# EAGLE library part SN74CBT16232DL (library Inventory)
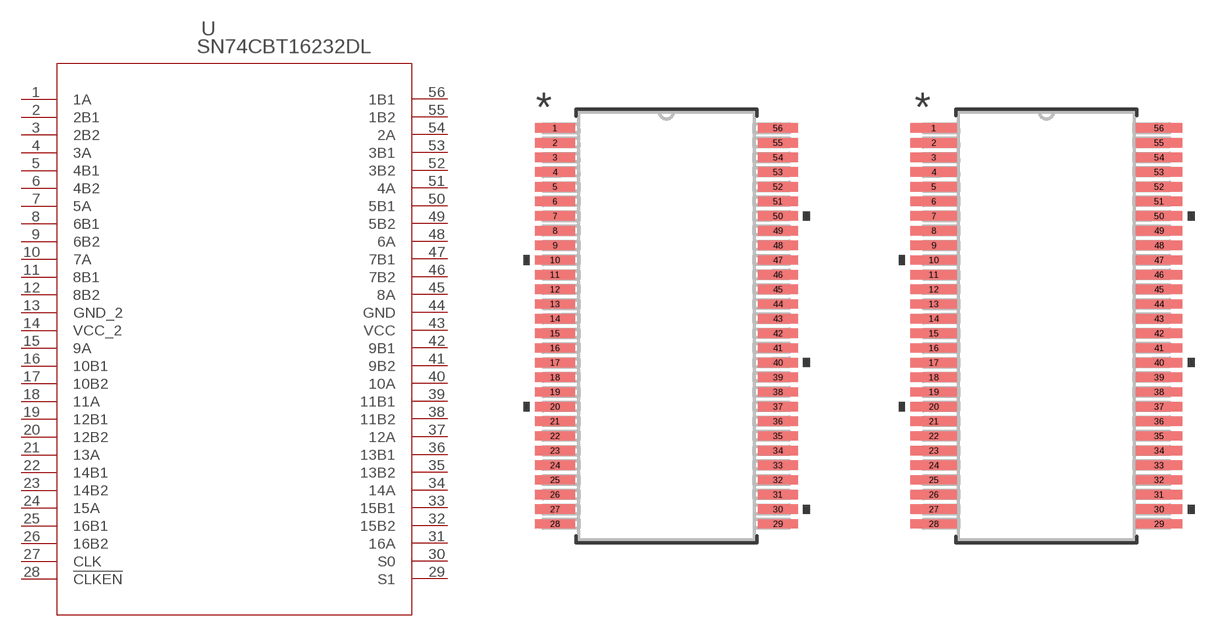
[diagram p10: symbol with the pads of DL56; footprints DL56, DL56-M]

Designator prefix U

## SN74CBT16232DL (COPYRIGHT: Copyright (C) 2022 Ultra Librarian. All rights reserved.; DIGI-KEY_PART_NUMBER_1: SN74CBT16232DL-ND; DIGI-KEY_PART_NUMBER_2: 2156-SN74CBT16232DL-ND; MANUFACTURER_PART_NUMBER: SN74CBT16232DL; MFR_NAME: Texas Instruments)  [DL56]
1  1A
2  2B1
3  2B2
4  3A
5  4B1
6  4B2
7  5A
8  6B1
9  6B2
10  7A
11  8B1
12  8B2
13  GND_2  pwr
14  VCC_2  pwr
15  9A
16  10B1
17  10B2
18  11A
19  12B1
20  12B2
21  13A
22  14B1
23  14B2
24  15A
25  16B1
26  16B2
27  CLK  in
28  !CLKEN  in
29  S1  in
30  S0  in
31  16A
32  15B2
33  15B1
34  14A
35  13B2
36  13B1
37  12A
38  11B2
39  11B1
40  10A
41  9B2
42  9B1
43  VCC  pwr
44  GND  pwr
45  8A
46  7B2
47  7B1
48  6A
49  5B2
50  5B1
51  4A
52  3B2
53  3B1
54  2A
55  1B2
56  1B1

## SN74CBT16232DLDL56-M (COPYRIGHT: Copyright (C) 2022 Ultra Librarian. All rights reserved.; DIGI-KEY_PART_NUMBER_1: SN74CBT16232DL-ND; DIGI-KEY_PART_NUMBER_2: 2156-SN74CBT16232DL-ND; MANUFACTURER_PART_NUMBER: SN74CBT16232DL; MFR_NAME: Texas Instruments)  [DL56-M]
Pads as for DL56

## SN74CBT16232DLDL56-L (COPYRIGHT: Copyright (C) 2022 Ultra Librarian. All rights reserved.; DIGI-KEY_PART_NUMBER_1: SN74CBT16232DL-ND; DIGI-KEY_PART_NUMBER_2: 2156-SN74CBT16232DL-ND; MANUFACTURER_PART_NUMBER: SN74CBT16232DL; MFR_NAME: Texas Instruments)  [DL56-L]
Pads as for DL56

## Footprint DL56 (pad centres in mm)
smd 1.716 x 0.406: 1 -4.826,8.572; 2 -4.826,7.938; 3 -4.826,7.303; 4 -4.826,6.668; 5 -4.826,6.032; 6 -4.826,5.397; 7 -4.826,4.763; 8 -4.826,4.128; 9 -4.826,3.493; 10 -4.826,2.857; 11 -4.826,2.223; 12 -4.826,1.587; 13 -4.826,0.953; 14 -4.826,0.318; 15 -4.826,-0.318; 16 -4.826,-0.953; 17 -4.826,-1.587; 18 -4.826,-2.223; 19 -4.826,-2.857; 20 -4.826,-3.493; 21 -4.826,-4.128; 22 -4.826,-4.763; 23 -4.826,-5.397; 24 -4.826,-6.032; 25 -4.826,-6.668; 26 -4.826,-7.303; 27 -4.826,-7.938; 28 -4.826,-8.572; 29 4.826,-8.572; 30 4.826,-7.938; 31 4.826,-7.303; 32 4.826,-6.668; 33 4.826,-6.032; 34 4.826,-5.397; 35 4.826,-4.763; 36 4.826,-4.128; 37 4.826,-3.493; 38 4.826,-2.857; 39 4.826,-2.223; 40 4.826,-1.587; 41 4.826,-0.953; 42 4.826,-0.318; 43 4.826,0.318; 44 4.826,0.953; 45 4.826,1.587; 46 4.826,2.223; 47 4.826,2.857; 48 4.826,3.493; 49 4.826,4.128; 50 4.826,4.763; 51 4.826,5.397; 52 4.826,6.032; 53 4.826,6.668; 54 4.826,7.303; 55 4.826,7.938; 56 4.826,8.572

## Footprint DL56-M (pad centres in mm)
smd 2.016 x 0.406: 1 -4.876,8.572; 2 -4.876,7.938; 3 -4.876,7.303; 4 -4.876,6.668; 5 -4.876,6.032; 6 -4.876,5.397; 7 -4.876,4.763; 8 -4.876,4.128; 9 -4.876,3.493; 10 -4.876,2.857; 11 -4.876,2.223; 12 -4.876,1.587; 13 -4.876,0.953; 14 -4.876,0.318; 15 -4.876,-0.318; 16 -4.876,-0.953; 17 -4.876,-1.587; 18 -4.876,-2.223; 19 -4.876,-2.857; 20 -4.876,-3.493; 21 -4.876,-4.128; 22 -4.876,-4.763; 23 -4.876,-5.397; 24 -4.876,-6.032; 25 -4.876,-6.668; 26 -4.876,-7.303; 27 -4.876,-7.938; 28 -4.876,-8.572; 29 4.876,-8.572; 30 4.876,-7.938; 31 4.876,-7.303; 32 4.876,-6.668; 33 4.876,-6.032; 34 4.876,-5.397; 35 4.876,-4.763; 36 4.876,-4.128; 37 4.876,-3.493; 38 4.876,-2.857; 39 4.876,-2.223; 40 4.876,-1.587; 41 4.876,-0.953; 42 4.876,-0.318; 43 4.876,0.318; 44 4.876,0.953; 45 4.876,1.587; 46 4.876,2.223; 47 4.876,2.857; 48 4.876,3.493; 49 4.876,4.128; 50 4.876,4.763; 51 4.876,5.397; 52 4.876,6.032; 53 4.876,6.668; 54 4.876,7.303; 55 4.876,7.938; 56 4.876,8.572

## Footprint DL56-L (pad centres in mm)
smd 1.416 x 0.356: 1 -4.776,8.572; 2 -4.776,7.938; 3 -4.776,7.303; 4 -4.776,6.668; 5 -4.776,6.032; 6 -4.776,5.397; 7 -4.776,4.763; 8 -4.776,4.128; 9 -4.776,3.493; 10 -4.776,2.857; 11 -4.776,2.223; 12 -4.776,1.587; 13 -4.776,0.953; 14 -4.776,0.318; 15 -4.776,-0.318; 16 -4.776,-0.953; 17 -4.776,-1.587; 18 -4.776,-2.223; 19 -4.776,-2.857; 20 -4.776,-3.493; 21 -4.776,-4.128; 22 -4.776,-4.763; 23 -4.776,-5.397; 24 -4.776,-6.032; 25 -4.776,-6.668; 26 -4.776,-7.303; 27 -4.776,-7.938; 28 -4.776,-8.572; 29 4.776,-8.572; 30 4.776,-7.938; 31 4.776,-7.303; 32 4.776,-6.668; 33 4.776,-6.032; 34 4.776,-5.397; 35 4.776,-4.763; 36 4.776,-4.128; 37 4.776,-3.493; 38 4.776,-2.857; 39 4.776,-2.223; 40 4.776,-1.587; 41 4.776,-0.953; 42 4.776,-0.318; 43 4.776,0.318; 44 4.776,0.953; 45 4.776,1.587; 46 4.776,2.223; 47 4.776,2.857; 48 4.776,3.493; 49 4.776,4.128; 50 4.776,4.763; 51 4.776,5.397; 52 4.776,6.032; 53 4.776,6.668; 54 4.776,7.303; 55 4.776,7.938; 56 4.776,8.572